# Altium footprint library 1uF.PcbLib: 1 footprints
Each footprint in its own frame and in the unit in brackets; x right, y up, seen from the top. Pads: shape width x height; smd on the part's side, far side on the other; paste and mask are expansions set on the pad; w line width, h text height; cw(c..) or ccw(c..) is an arc to the next point about the centre after c.
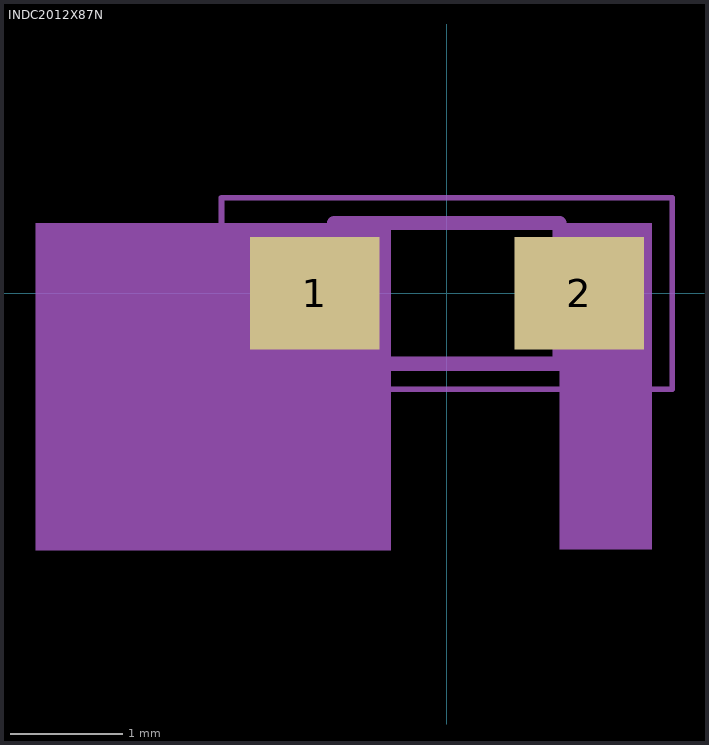
[diagram p0: the footprint, top view; thin cyan lines are the x and y axes]

## INDC2012X87N [mm]
pads (2):
  rect 1.15x1 smd: 1(-1.175,0) 2(1.175,0)
Mechanical 1:
  region: 1.818,0.625 1,0.625 1,-2.273 1.818,-2.273
  region: -3.649,0.625 -0.5,0.625 -0.5,-2.281 -3.649,-2.281
  lines w0.051: -2,-0.85 -2,0.85 2,0.85 2,-0.85 -2,-0.85
  lines w0.127: -1,-0.625 -1,0.625 1,0.625 1,-0.625 -1,-0.625